# Altium footprint library PcbLib1.PcbLib: 25 footprints (part 2 of 2)
Each footprint in its own frame and in the unit in brackets; x right, y up, seen from the top. Pads: shape width x height; smd on the part's side, far side on the other; paste and mask are expansions set on the pad; w line width, h text height; cw(c..) or ccw(c..) is an arc to the next point about the centre after c.
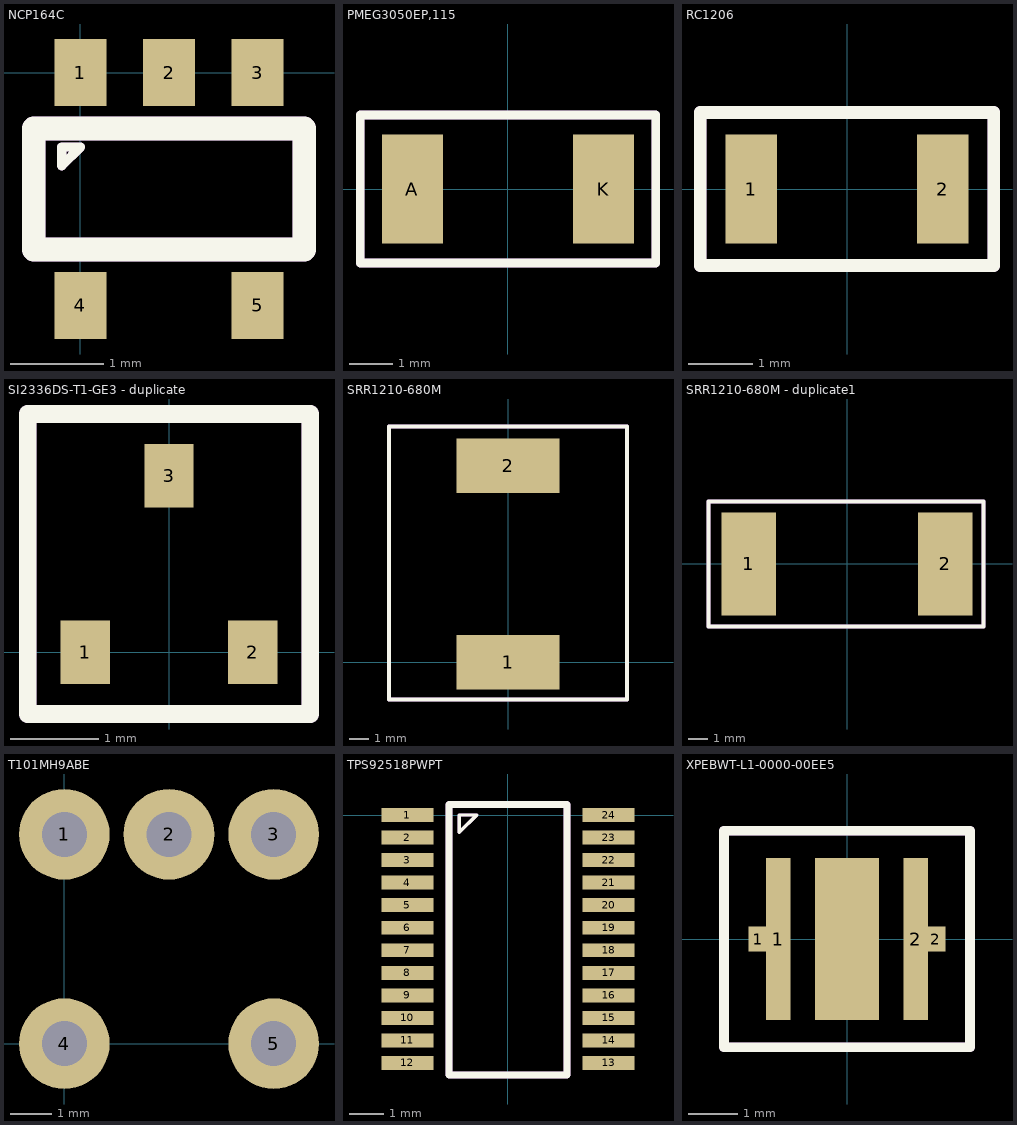
[diagram p1: the footprints below, top view; thin cyan lines are the x and y axes]

## NCP164C [mm] "LDO"
pads (5):
  rect 0.56x0.72 smd: 1(0,0) 2(0.95,0) 3(1.9,0) 4(0,-2.5) 5(1.9,-2.5)
Top Overlay:
  lines w0.1: -0.2,-0.8 0,-0.8 ; -0.2,-0.8 0,-0.8 ; -0.2,-0.8 -0.2,-1 0,-0.8
  lines w0.254: -0.5,-1.9 2.4,-1.9 2.4,-0.6 -0.5,-0.6 -0.5,-1.9
Mechanical 29:
  lines w0.1: -0.2,-0.8 0,-0.8 ; -0.2,-0.8 0,-0.8 ; -0.2,-0.8 -0.2,-1 0,-0.8
  lines w0.254: -0.5,-1.9 2.4,-1.9 2.4,-0.6 -0.5,-0.6 -0.5,-1.9
  text "'.Designator'" at 0.1,-1.433 h0.5

## PMEG3050EP,115 [mm]
pads (2):
  rect 1.4x2.5 smd: A(-2.2,0) K(2.2,0)
Top Overlay:
  lines w0.2: -3.4,-1.7 3.4,-1.7 3.4,1.7 -3.4,1.7 -3.4,-1.7
Mechanical 29:
  lines w0.2: -3.4,-1.7 3.4,-1.7 3.4,1.7 -3.4,1.7 -3.4,-1.7
  text "'.Designator'" at -2.446,-0.638 h1.52

## RC1206 [mm]
pads (2):
  rect 0.8x1.7 smd: 1(-1.5,0) 2(1.5,0)
Top Overlay:
  lines w0.2: -2.3,-1.2 2.3,-1.2 2.3,1.2 -2.3,1.2 -2.3,-1.2
Mechanical 29:
  lines w0.2: -2.3,-1.2 2.3,-1.2 2.3,1.2 -2.3,1.2 -2.3,-1.2
  text "'.Designator'" at -1.9,-0.267 h0.7

## SI2336DS-T1-GE3 - duplicate [mm]
pads (3):
  rect 0.56x0.72 smd: 1(-0.95,0) 2(0.95,0) 3(0,2)
Top Overlay:
  lines w0.2: -1.6,-0.7 1.6,-0.7 1.6,2.7 -1.6,2.7 -1.6,-0.7
Mechanical 29:
  lines w0.2: -1.6,-0.7 1.6,-0.7 1.6,2.7 -1.6,2.7 -1.6,-0.7
  text "'.Designator'" at -1.4,0.333 h0.7

## SRR1210-680M [mm]
pads (2):
  rect 5.3x2.8 smd: 1(0,0) 2(0,10.1)
Top Overlay:
  lines w0.2: -6.1,-1.9 -6.1,0 -6.1,12.1 6.1,12.1 6.1,-1.9 -6.1,-1.9
Mechanical 29:
  lines w0.2: -6.1,-1.9 -6.1,0 -6.1,12.1 6.1,12.1 6.1,-1.9 -6.1,-1.9
  text "'.Designator'" at -2.546,4.862 h1.52

## SRR1210-680M - duplicate1 [mm]
pads (2):
  rect 2.8x5.3 smd: 1(-5.05,0) 2(5.05,0)
Top Overlay:
  lines w0.2: -7.1,-3.2 7,-3.2 7,3.2 -7.1,3.2 -7.1,1.1 -7.1,-1.1 -7.1,-3.2
Mechanical 29:
  lines w0.2: -7.1,-3.2 7,-3.2 7,3.2 -7.1,3.2 -7.1,1.1 -7.1,-1.1 -7.1,-3.2
  text "'.Designator'" at -5.446,-1.238 h1.52

## T101MH9ABE [mm]
pads (5):
  round 2.2 hole 1.09: 1(0,5.08) 2(2.54,5.08) 3(5.08,5.08) 4(0,0) 5(5.08,0)
Mechanical 29:
  text "'.Designator'" at -1.2,2.233 h0.7

## TPS92518PWPT [mm]
pads (24):
  rect 1.5x0.4 smd: 1(-2.9,0) 2(-2.9,-0.65) 3(-2.9,-1.3) 4(-2.9,-1.95) 5(-2.9,-2.6) 6(-2.9,-3.25) 7(-2.9,-3.9) 8(-2.9,-4.55) 9(-2.9,-5.2) 10(-2.9,-5.85) 11(-2.9,-6.5) 12(-2.9,-7.15) 13(2.9,-7.15) 14(2.9,-6.5) 15(2.9,-5.85) 16(2.9,-5.2) 17(2.9,-4.55) 18(2.9,-3.9) 19(2.9,-3.25) 20(2.9,-2.6) 21(2.9,-1.95) 22(2.9,-1.3) 23(2.9,-0.65) 24(2.9,0)
Top Overlay:
  lines w0.1: -1.4,-0.5 -1.4,0 -0.9,0 -1.4,-0.5
  lines w0.2: -1.7,-7.5 -1.7,0.3 1.7,0.3 1.7,-7.5 -1.7,-7.5
Mechanical 29:
  lines w0.1: -1.4,-0.5 -1.4,0 -0.9,0 -1.4,-0.5
  lines w0.2: -1.7,-7.5 -1.7,0.3 1.7,0.3 1.7,-7.5 -1.7,-7.5
  text "'.Designator'" at -0.846,-4.338 h1.52

## XPEBWT-L1-0000-00EE5 [mm]
pads (5):
  rect 0.4x0.5 smd: 1(-1.8,0) 2(1.8,0)
  rect 0.5x3.3 smd: 1(-1.4,0) 2(1.4,0)
  rect 1.3x3.3 smd: ""(0,0)
Top Overlay:
  lines w0.2: -2.5,-2.2 -2.5,0 -2.5,2.2 2.5,2.2 2.5,-2.2 -2.5,-2.2
Mechanical 29:
  lines w0.2: -2.5,-2.2 -2.5,0 -2.5,2.2 2.5,2.2 2.5,-2.2 -2.5,-2.2
  text "'.Designator'" at -1.446,-0.638 h1.52